# Altium footprint library 5V_to_3.3V_regulator_module.PcbLib: 1 footprints
Each footprint in its own frame and in the unit in brackets; x right, y up, seen from the top. Pads: shape width x height; smd on the part's side, far side on the other; paste and mask are expansions set on the pad; w line width, h text height; cw(c..) or ccw(c..) is an arc to the next point about the centre after c.
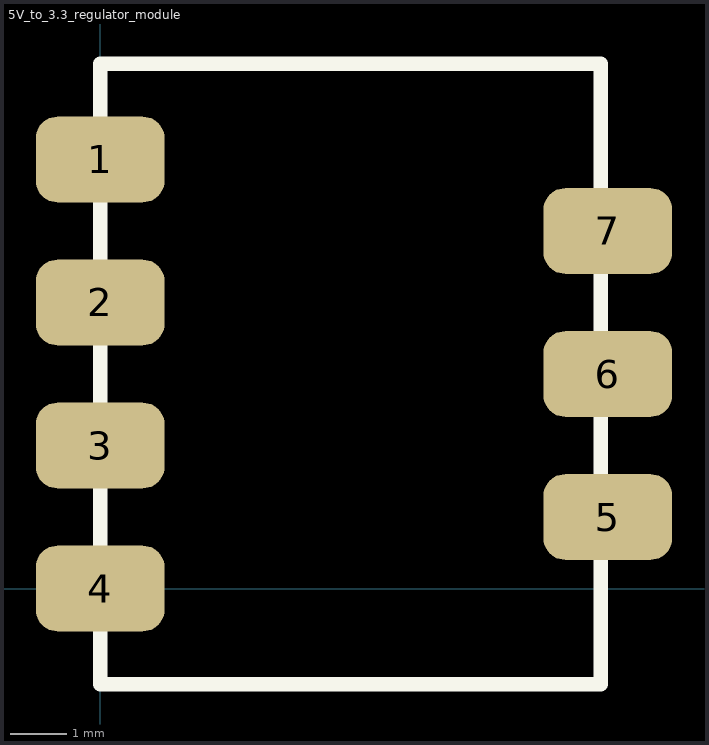
[diagram p0: the footprint, top view; thin cyan lines are the x and y axes]

## 5V_to_3.3_regulator_module [mil]
pads (7):
  rrect50% 90x60 smd: 1(0,300) 2(0,200) 3(0,100) 4(0,0) 5(355,50) 6(355,150) 7(355,250)
Top Overlay:
  lines w10: 0,-67 0,367 350,367 350,-67 0,-67